# Altium schematic symbol library M50-3600342.SchLib: 1 symbol
Pins are listed as number, name and electrical type; pins without a type are passive.

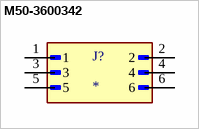
[diagram p0: symbol M50-3600342]

## M50-3600342
designator J?
MP: M50-3600342; Package: None; Price: None; Value: *; Availability: Unavailable
footprint HARWIN_M50-3600342
pins: 1, 2, 3, 4, 5, 6